# Altium footprint library 1222312GR.PcbLib: 1 footprints
Each footprint in its own frame and in the unit in brackets; x right, y up, seen from the top. Pads: shape width x height; smd on the part's side, far side on the other; paste and mask are expansions set on the pad; w line width, h text height; cw(c..) or ccw(c..) is an arc to the next point about the centre after c.
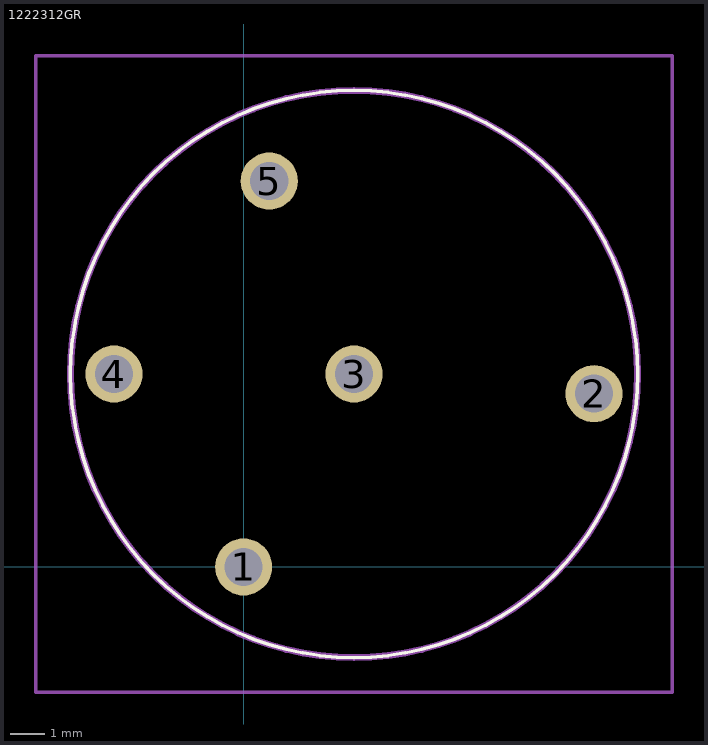
[diagram p0: the footprint, top view; thin cyan lines are the x and y axes]

## 1222312GR [mm]
pads (5):
  round 1.65 hole 1.1: 1(0,0) 2(10.13,5.01) 3(3.19,5.58) 4(-3.75,5.58) 5(0.74,11.16)
Top Overlay:
  lines w0.1: -5.01,5.58 -5.01,5.58 ; -5.01,5.58 ccw(c3.19,5.58) 11.39,5.58 ; -5.01,5.58 cw(c3.19,5.58) 11.39,5.58 ; 11.39,5.58 11.39,5.58
Mechanical 15:
  lines w0.2: -5.01,5.58 -5.01,5.58 ; -5.01,5.58 ccw(c3.19,5.58) 11.39,5.58 ; -5.01,5.58 cw(c3.19,5.58) 11.39,5.58 ; 11.39,5.58 11.39,5.58
Mechanical 20:
  lines w0.1: -6.01,-3.62 12.39,-3.62 12.39,14.78 -6.01,14.78 -6.01,-3.62
3D body "122-2312-GR.stp": height 5.8, standoff -4.65, extent -10,-3.376 10,3.376